# EAGLE library part SN74AUC2G66DCTR (library SN74AUC2G66DCTR)
Dual Bilateral Analog Switch Source: Datasheet <http://www.ti.com/lit/gpn/sn74auc2g66>
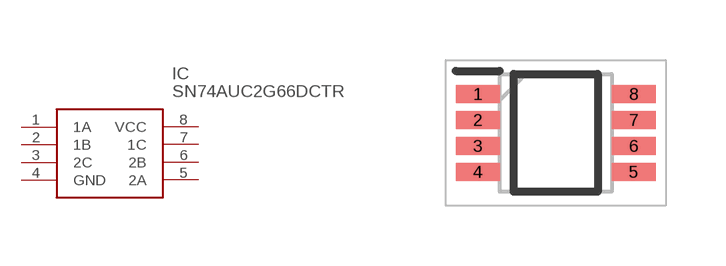
[diagram p0: symbol with the pads of SOP65P400X130-8N; footprint SOP65P400X130-8N]

Designator prefix IC

## SN74AUC2G66DCTR (Description: Dual Bilateral Analog Switch; Height: 1.3mm; Manufacturer_Name: Texas Instruments; Manufacturer_Part_Number: SN74AUC2G66DCTR; Mouser_Part_Number: 595-SN74AUC2G66DCTR; Mouser_Price-Stock: https://www.mouser.co.uk/ProductDetail/Texas-Instruments/SN74AUC2G66DCTR?qs=X3IDIfI%252BJAXYLrXiJRkcqA%3D%3D)  [SOP65P400X130-8N]
1  1A
2  1B
3  2C
4  GND
5  2A
6  2B
7  1C
8  VCC

## Footprint SOP65P400X130-8N (pad centres in mm)
DCT0008A
smd 1.1 x 0.45: 1 -1.95,0.975; 2 -1.95,0.325; 3 -1.95,-0.325; 4 -1.95,-0.975; 5 1.95,-0.975; 6 1.95,-0.325; 7 1.95,0.325; 8 1.95,0.975